# EAGLE library part USB-RJ45 (library personal)
RJ45 RJ45 jacks side mounted http://www.tycoelectronics.com
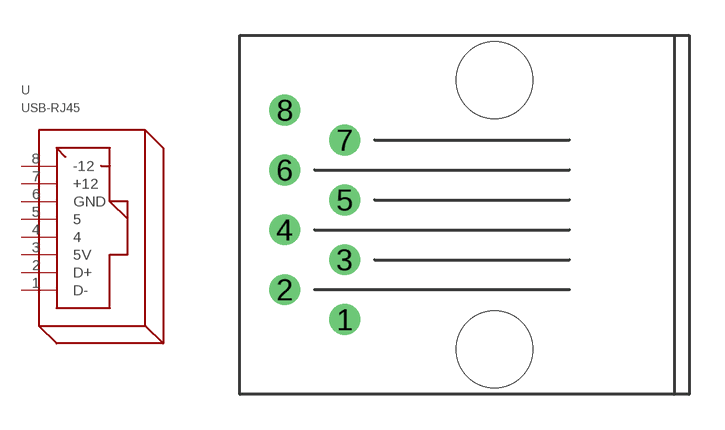
[diagram p14: symbol with the pads of RJ45; footprint RJ45]

Designator prefix -

## USB-RJ45  [RJ45]
1  D-
2  D+
3  5V
4  4
5  5
6  GND
7  +12
8  -12

## Footprint RJ45 (pad centres in mm)
RJ45 RJ45 jacks side mounted http://www.tycoelectronics.com
drill 0.8 round: 1 -6.35,-4.445; 2 -8.89,-3.175; 3 -6.35,-1.905; 4 -8.89,-0.635; 5 -6.35,0.635; 6 -8.89,1.905; 7 -6.35,3.175; 8 -8.89,4.445
hole 3.25 at 0,-5.715
hole 3.25 at 0,5.715